# EAGLE library part SN74AUC1G74DCTR (library Revolve)
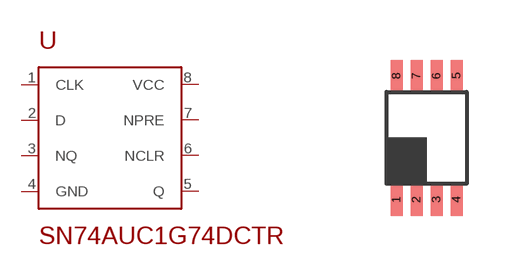
[diagram p7: symbol with the pads of S-PDSO-G8; footprint S-PDSO-G8]

Designator prefix -

## SN74AUC1G74DCTR  [S-PDSO-G8]
1  CLK  pwr
2  D  pwr
3  NQ  pwr
4  GND  pwr
5  Q  pwr
6  NCLR  pwr
7  NPRE  pwr
8  VCC  pwr

## Footprint S-PDSO-G8 (pad centres in mm)
smd 0.3 x 0.8: 1 -0.75,-1.55; 2 -0.25,-1.55; 3 0.25,-1.55; 4 0.75,-1.55; 5 0.75,1.55; 6 0.25,1.55; 7 -0.25,1.55; 8 -0.75,1.55